# Altium schematic symbol library ERA6VRB1002V.SchLib: 1 symbol
Pins are listed as number, name and electrical type; pins without a type are passive.

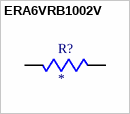
[diagram p0: symbol ERA6VRB1002V]

## ERA6VRB1002V
designator R?
MP: ERA6VRB1002V; Availability: Unavailable; Package: None; Value: *; Price: None
footprint RES_ERA6VRB1002V
pins: 1, 2